# Altium integrated library ON Semi Passive Tunable Integrated Circuits (PTICs).IntLib: 16 symbols
Pins are listed as number, name and electrical type; pins without a type are passive.

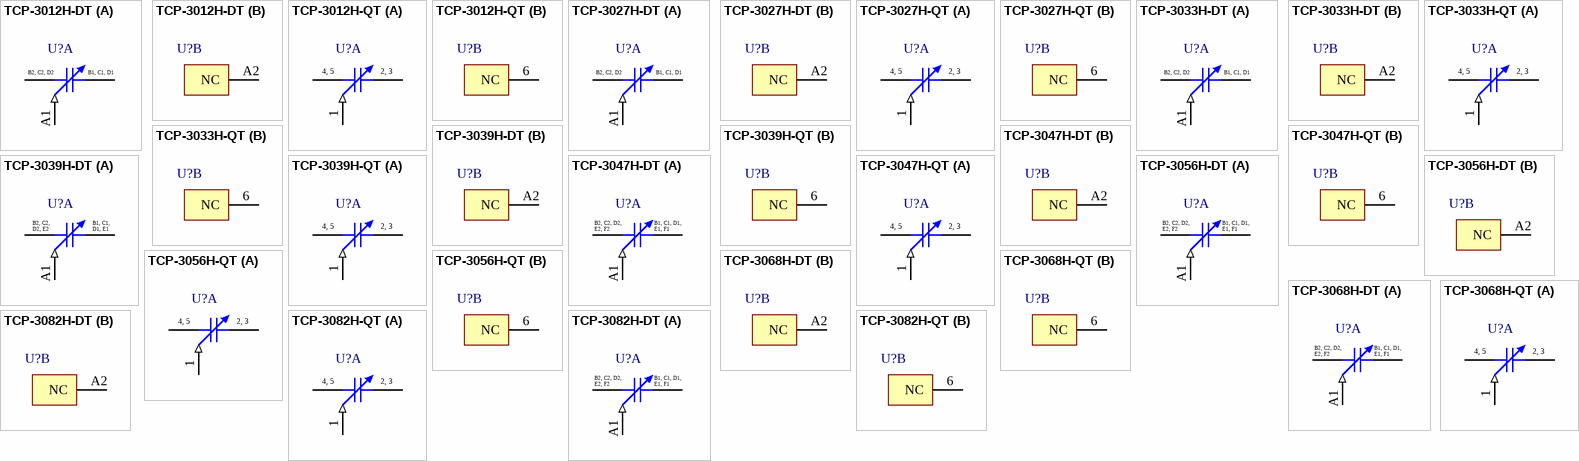
[diagram p0: symbols TCP-3012H-DT to TCP-3082H-QT]

## TCP-3012H-DT
designator U?
1.2 pF Passive Tunable Integrated Circuit (PTIC), -30 to 85 degC, 8-Pin WLCSP, Pb-Free, Tape and Reel; Manufacturer: On Semiconductor; PartNumber: TCP-3012H-DT; fO MHz: 700-2700; Q @ 2.4 GHz, 10 V: 60; Q @ 700 MHz, 10 V: 90; Tuning Range 2 - 20 V Typ: 3.8; DatasheetVersion: Rev. P3; PackageReference: WLCSP-8; PackageDescription: 8-Ball Wafer Level Chip Scale Package, Body 0.879 x 0.722 mm; Supplier 1: Newark; Supplier Part Number 1: 97W6528; Supplier 2: Mouser; Supplier Part Number 2: 863-TCP-3012H-DT; Packing: Tape and Reel; RoHS: Pb-Free; Mounting Technology: Surface Mount; ComponentLink1Description: Manufacturer URL; ComponentLink1URL: http://www.onsemi.com/; ComponentLink2Description: Datasheet; ComponentLink2URL: http://www.onsemi.com/pub_link/Collateral/TCP-3012H-D.PDF; ComponentLink3Description: Package Specification; ComponentLink3URL: http://www.onsemi.com/pub_link/Collateral/TCP-3012H-D.PDF
footprint ONSC-WLCSP-8_V (WLCSP, 8-Leads, Body 0.879x0.722mm)
part A pins: A1 BIAS (in), B1 RF2, B2 RF1, C1 RF2, C2 RF1, D1 RF2, D2 RF1
part B pins: A2 NC
part A text: B2, C2, D2; B1, C1, D1

## TCP-3012H-QT
designator U?
1.2 pF Passive Tunable Integrated Circuit (PTIC), -30 to 85 degC, 6-Pin QFN, Pb-Free, Tape and Reel; Manufacturer: On Semiconductor; PartNumber: TCP-3012H-QT; fO MHz: 700-2700; Q @ 2.4 GHz, 10 V: 60; Q @ 700 MHz, 10 V: 90; Tuning Range 2 - 20 V Typ: 3.8; DatasheetVersion: Rev. P3; PackageReference: QFN-6; PackageDescription: 6-Pin Plastic Flat Pack, Body 1.6 x 1.2 mm, Pitch 0.5 mm; Supplier 1: Newark; Supplier Part Number 1: 97W6529; Supplier 2: Mouser; Supplier Part Number 2: 863-TCP-3012H-QT; Packing: Tape and Reel; RoHS: Pb-Free; Mounting Technology: Surface Mount; ComponentLink1Description: Manufacturer URL; ComponentLink1URL: http://www.onsemi.com/; ComponentLink2Description: Datasheet; ComponentLink2URL: http://www.onsemi.com/pub_link/Collateral/TCP-3012H-D.PDF; ComponentLink3Description: Package Specification; ComponentLink3URL: http://www.onsemi.com/pub_link/Collateral/TCP-3012H-D.PDF
footprint ONSC-QFN-6_V (QFN, 6-Leads, Body 1.6x1.2mm, Pitch 0.5mm, Recommended)
part A pins: 1 BIAS (in), 2 RF2, 3 RF2, 4 RF1, 5 RF1
part B pins: 6 NC
part A text: 4, 5; 2, 3

## TCP-3027H-DT
designator U?
2.7 pF Passive Tunable Integrated Circuit (PTIC), -30 to 85 degC, 8-Pin WLCSP, Pb-Free, Tape and Reel; Manufacturer: On Semiconductor; PartNumber: TCP-3027H-DT; fO MHz: 700-2700; Q @ 2.4 GHz, 10 V: 60; Q @ 700 MHz, 10 V: 90; Tuning Range 2 - 20 V Typ: 3.8; DatasheetVersion: Rev. P3; PackageReference: WLCSP-8; PackageDescription: 8-Ball Wafer Level Chip Scale Package, Body 0.879 x 0.722 mm; Supplier 1: Newark; Supplier Part Number 1: 97W6530; Supplier 2: Mouser; Supplier Part Number 2: 863-TCP-3027H-DT; Packing: Tape and Reel; RoHS: Pb-Free; Mounting Technology: Surface Mount; ComponentLink1Description: Manufacturer URL; ComponentLink1URL: http://www.onsemi.com/; ComponentLink2Description: Datasheet; ComponentLink2URL: http://www.onsemi.com/pub_link/Collateral/TCP-3027H-D.PDF; ComponentLink3Description: Package Specification; ComponentLink3URL: http://www.onsemi.com/pub_link/Collateral/TCP-3012H-D.PDF
footprint ONSC-WLCSP-8_V (WLCSP, 8-Leads, Body 0.879x0.722mm)
part A pins: A1 BIAS (in), B1 RF2, B2 RF1, C1 RF2, C2 RF1, D1 RF2, D2 RF1
part B pins: A2 NC
part A text: B2, C2, D2; B1, C1, D1

## TCP-3027H-QT
designator U?
2.7 pF Passive Tunable Integrated Circuit (PTIC), -30 to 85 degC, 6-Pin QFN, Pb-Free, Tape and Reel; Manufacturer: On Semiconductor; PartNumber: TCP-3027H-QT; fO MHz: 700-2700; Q @ 2.4 GHz, 10 V: 60; Q @ 700 MHz, 10 V: 90; Tuning Range 2 - 20 V Typ: 3.8; DatasheetVersion: Rev. P3; PackageReference: QFN-6; PackageDescription: 6-Pin Plastic Flat Pack, Body 1.6 x 1.2 mm, Pitch 0.5 mm; Supplier 1: Newark; Supplier Part Number 1: 97W6531; Supplier 2: Mouser; Supplier Part Number 2: 863-TCP-3027H-QT; Packing: Tape and Reel; RoHS: Pb-Free; Mounting Technology: Surface Mount; ComponentLink1Description: Manufacturer URL; ComponentLink1URL: http://www.onsemi.com/; ComponentLink2Description: Datasheet; ComponentLink2URL: http://www.onsemi.com/pub_link/Collateral/TCP-3027H-D.PDF; ComponentLink3Description: Package Specification; ComponentLink3URL: http://www.onsemi.com/pub_link/Collateral/TCP-3012H-D.PDF
footprint ONSC-QFN-6_V (QFN, 6-Leads, Body 1.6x1.2mm, Pitch 0.5mm, Recommended)
part A pins: 1 BIAS (in), 2 RF2, 3 RF2, 4 RF1, 5 RF1
part B pins: 6 NC
part A text: 4, 5; 2, 3

## TCP-3033H-DT
designator U?
3.3 pF Passive Tunable Integrated Circuit (PTIC), -30 to 85 degC, 8-Pin WLCSP, Pb-Free, Tape and Reel; Manufacturer: On Semiconductor; PartNumber: TCP-3033H-DT; fO MHz: 700-2700; Q @ 2.4 GHz, 10 V: 60; Q @ 700 MHz, 10 V: 90; Tuning Range 2 - 20 V Typ: 3.8; DatasheetVersion: Rev. P3; PackageReference: WLCSP-8; PackageDescription: 8-Ball Wafer Level Chip Scale Package, Body 0.879 x 0.722 mm; Supplier 1: Newark; Supplier Part Number 1: 97W6534; Supplier 2: Mouser; Supplier Part Number 2: 863-TCP-3033H-DT; Packing: Tape and Reel; RoHS: Pb-Free; Mounting Technology: Surface Mount; ComponentLink1Description: Manufacturer URL; ComponentLink1URL: http://www.onsemi.com/; ComponentLink2Description: Datasheet; ComponentLink2URL: http://www.onsemi.com/pub_link/Collateral/TCP-3033H-D.PDF; ComponentLink3Description: Package Specification; ComponentLink3URL: http://www.onsemi.com/pub_link/Collateral/TCP-3012H-D.PDF
footprint ONSC-WLCSP-8_V (WLCSP, 8-Leads, Body 0.879x0.722mm)
part A pins: A1 BIAS (in), B1 RF2, B2 RF1, C1 RF2, C2 RF1, D1 RF2, D2 RF1
part B pins: A2 NC
part A text: B2, C2, D2; B1, C1, D1

## TCP-3033H-QT
designator U?
3.3 pF Passive Tunable Integrated Circuit (PTIC), -30 to 85 degC, 6-Pin QFN, Pb-Free, Tape and Reel; Manufacturer: On Semiconductor; PartNumber: TCP-3033H-QT; fO MHz: 700-2700; Q @ 2.4 GHz, 10 V: 60; Q @ 700 MHz, 10 V: 90; Tuning Range 2 - 20 V Typ: 3.8; DatasheetVersion: Rev. P3; PackageReference: QFN-6; PackageDescription: 6-Pin Plastic Flat Pack, Body 1.6 x 1.2 mm, Pitch 0.5 mm; Supplier 1: Newark; Supplier Part Number 1: 97W6535; Supplier 2: Mouser; Supplier Part Number 2: 863-TCP-3033H-QT; Packing: Tape and Reel; RoHS: Pb-Free; Mounting Technology: Surface Mount; ComponentLink1Description: Manufacturer URL; ComponentLink1URL: http://www.onsemi.com/; ComponentLink2Description: Datasheet; ComponentLink2URL: http://www.onsemi.com/pub_link/Collateral/TCP-3033H-D.PDF; ComponentLink3Description: Package Specification; ComponentLink3URL: http://www.onsemi.com/pub_link/Collateral/TCP-3012H-D.PDF
footprint ONSC-QFN-6_V (QFN, 6-Leads, Body 1.6x1.2mm, Pitch 0.5mm, Recommended)
part A pins: 1 BIAS (in), 2 RF2, 3 RF2, 4 RF1, 5 RF1
part B pins: 6 NC
part A text: 4, 5; 2, 3

## TCP-3039H-DT
designator U?
3.9 pF Passive Tunable Integrated Circuit (PTIC), -30 to 85 degC, 10-Pin WLCSP, Pb-Free, Tape and Reel; Manufacturer: On Semiconductor; PartNumber: TCP-3039H-DT; fO MHz: 700-2700; Q @ 2.4 GHz, 10 V: 60; Q @ 700 MHz, 10 V: 90; Tuning Range 2 - 20 V Typ: 3.8; DatasheetVersion: Rev. P3; PackageReference: WLCSP-10; PackageDescription: 10-Ball Wafer Level Chip Scale Package, Body 1.029 x 0.722 mm; Supplier 1: Newark; Supplier Part Number 1: 97W6538; Supplier 2: Mouser; Supplier Part Number 2: 863-TCP-3039H-DT; Packing: Tape and Reel; RoHS: Pb-Free; Mounting Technology: Surface Mount; ComponentLink1Description: Manufacturer URL; ComponentLink1URL: http://www.onsemi.com/; ComponentLink2Description: Datasheet; ComponentLink2URL: http://www.onsemi.com/pub_link/Collateral/TCP-3039H-D.PDF; ComponentLink3Description: Package Specification; ComponentLink3URL: http://www.onsemi.com/pub_link/Collateral/TCP-3039H-D.PDF
footprint ONSC-WLCSP-10_V (WLCSP, 10-Leads, Body 1.029x0.722mm)
part A pins: A1 BIAS (in), B1 RF2, B2 RF1, C1 RF2, C2 RF1, D1 RF2, D2 RF1, E1 RF2, E2 RF1
part B pins: A2 NC
part A text: B2, C2,; B1, C1,; D2, E2; D1, E1

## TCP-3039H-QT
designator U?
3.9 pF Passive Tunable Integrated Circuit (PTIC), -30 to 85 degC, 6-Pin QFN, Pb-Free, Tape and Reel; Manufacturer: On Semiconductor; PartNumber: TCP-3039H-QT; fO MHz: 700-2700; Q @ 2.4 GHz, 10 V: 60; Q @ 700 MHz, 10 V: 90; Tuning Range 2 - 20 V Typ: 3.8; DatasheetVersion: Rev. P3; PackageReference: QFN-6; PackageDescription: 6-Pin Plastic Flat Pack, Body 1.6 x 1.2 mm, Pitch 0.5 mm; Supplier 1: Newark; Supplier Part Number 1: 97W6539; Supplier 2: Mouser; Supplier Part Number 2: 863-TCP-3039H-QT; Packing: Tape and Reel; RoHS: Pb-Free; Mounting Technology: Surface Mount; ComponentLink1Description: Manufacturer URL; ComponentLink1URL: http://www.onsemi.com/; ComponentLink2Description: Datasheet; ComponentLink2URL: http://www.onsemi.com/pub_link/Collateral/TCP-3039H-D.PDF; ComponentLink3Description: Package Specification; ComponentLink3URL: http://www.onsemi.com/pub_link/Collateral/TCP-3012H-D.PDF
footprint ONSC-QFN-6_V (QFN, 6-Leads, Body 1.6x1.2mm, Pitch 0.5mm, Recommended)
part A pins: 1 BIAS (in), 2 RF2, 3 RF2, 4 RF1, 5 RF1
part B pins: 6 NC
part A text: 4, 5; 2, 3

## TCP-3047H-DT
designator U?
4.7 pF Passive Tunable Integrated Circuit (PTIC), -30 to 85 degC, 12-Pin WLCSP, Pb-Free, Tape and Reel; Manufacturer: On Semiconductor; PartNumber: TCP-3047H-DT; fO MHz: 700-2700; Q @ 2.4 GHz, 10 V: 60; Q @ 700 MHz, 10 V: 90; Tuning Range 2 - 20 V Typ: 3.8; DatasheetVersion: Rev. P3; PackageReference: WLCSP-12; PackageDescription: 12-Ball Wafer Level Chip Scale Package, Body 1.179 x 0.722 mm; Supplier 1: Newark; Supplier Part Number 1: 97W6542; Supplier 2: Mouser; Supplier Part Number 2: 863-TCP-3047H-DT; Packing: Tape and Reel; RoHS: Pb-Free; Mounting Technology: Surface Mount; ComponentLink1Description: Manufacturer URL; ComponentLink1URL: http://www.onsemi.com/; ComponentLink2Description: Datasheet; ComponentLink2URL: http://www.onsemi.com/pub_link/Collateral/TCP-3047H-D.PDF; ComponentLink3Description: Package Specification; ComponentLink3URL: http://www.onsemi.com/pub_link/Collateral/TCP-3082H-D.PDF
footprint ONSC-WLCSP-12_V (WLCSP, 12-Leads, Body 1.179x0.722mm)
part A pins: A1 BIAS (in), B1 RF2, B2 RF1, C1 RF2, C2 RF1, D1 RF2, D2 RF1, E1 RF2, E2 RF1, F1 RF2, F2 RF1
part B pins: A2 NC
part A text: B2, C2, D2,; B1, C1, D1,; E2, F2; E1, F1

## TCP-3047H-QT
designator U?
4.7 pF Passive Tunable Integrated Circuit (PTIC), -30 to 85 degC, 6-Pin QFN, Pb-Free, Tape and Reel; Manufacturer: On Semiconductor; PartNumber: TCP-3047H-QT; fO MHz: 700-2700; Q @ 2.4 GHz, 10 V: 60; Q @ 700 MHz, 10 V: 90; Tuning Range 2 - 20 V Typ: 3.8; DatasheetVersion: Rev. P3; PackageReference: QFN-6; PackageDescription: 6-Pin Plastic Flat Pack, Body 1.6 x 1.2 mm, Pitch 0.5 mm; Supplier 1: Newark; Supplier Part Number 1: 97W6543; Supplier 2: Mouser; Supplier Part Number 2: 863-TCP-3047H-QT; Packing: Tape and Reel; RoHS: Pb-Free; Mounting Technology: Surface Mount; ComponentLink1Description: Manufacturer URL; ComponentLink1URL: http://www.onsemi.com/; ComponentLink2Description: Datasheet; ComponentLink2URL: http://www.onsemi.com/pub_link/Collateral/TCP-3047H-D.PDF; ComponentLink3Description: Package Specification; ComponentLink3URL: http://www.onsemi.com/pub_link/Collateral/TCP-3012H-D.PDF
footprint ONSC-QFN-6_V (QFN, 6-Leads, Body 1.6x1.2mm, Pitch 0.5mm, Recommended)
part A pins: 1 BIAS (in), 2 RF2, 3 RF2, 4 RF1, 5 RF1
part B pins: 6 NC
part A text: 4, 5; 2, 3

## TCP-3056H-DT
designator U?
5.6 pF Passive Tunable Integrated Circuit (PTIC), -30 to 85 degC, 12-Pin WLCSP, Pb-Free, Tape and Reel; Manufacturer: On Semiconductor; PartNumber: TCP-3056H-DT; fO MHz: 700-2700; Q @ 2.4 GHz, 10 V: 65; Q @ 700 MHz, 10 V: 100; Tuning Range 2 - 20 V Typ: 3.8; DatasheetVersion: Rev. P3; PackageReference: WLCSP-12; PackageDescription: 12-Ball Wafer Level Chip Scale Package, Body 1.179 x 0.722 mm; Supplier 1: Newark; Supplier Part Number 1: 97W6546; Supplier 2: Mouser; Supplier Part Number 2: 863-TCP-3056H-DT; Packing: Tape and Reel; RoHS: Pb-Free; Mounting Technology: Surface Mount; ComponentLink1Description: Manufacturer URL; ComponentLink1URL: http://www.onsemi.com/; ComponentLink2Description: Datasheet; ComponentLink2URL: http://www.onsemi.com/pub_link/Collateral/TCP-3056H-D.PDF; ComponentLink3Description: Package Specification; ComponentLink3URL: http://www.onsemi.com/pub_link/Collateral/TCP-3082H-D.PDF
footprint ONSC-WLCSP-12_V (WLCSP, 12-Leads, Body 1.179x0.722mm)
part A pins: A1 BIAS (in), B1 RF2, B2 RF1, C1 RF2, C2 RF1, D1 RF2, D2 RF1, E1 RF2, E2 RF1, F1 RF2, F2 RF1
part B pins: A2 NC
part A text: B2, C2, D2,; B1, C1, D1,; E2, F2; E1, F1

## TCP-3056H-QT
designator U?
5.6 pF Passive Tunable Integrated Circuit (PTIC), -30 to 85 degC, 6-Pin QFN, Pb-Free, Tape and Reel; Manufacturer: On Semiconductor; PartNumber: TCP-3056H-QT; fO MHz: 700-2700; Q @ 2.4 GHz, 10 V: 65; Q @ 700 MHz, 10 V: 100; Tuning Range 2 - 20 V Typ: 3.8; DatasheetVersion: Rev. P3; PackageReference: QFN-6; PackageDescription: 6-Pin Plastic Flat Pack, Body 1.6 x 1.2 mm, Pitch 0.5 mm; Supplier 1: Newark; Supplier Part Number 1: 97W6547; Supplier 2: Mouser; Supplier Part Number 2: 863-TCP-3056H-QT; Packing: Tape and Reel; RoHS: Pb-Free; Mounting Technology: Surface Mount; ComponentLink1Description: Manufacturer URL; ComponentLink1URL: http://www.onsemi.com/; ComponentLink2Description: Datasheet; ComponentLink2URL: http://www.onsemi.com/pub_link/Collateral/TCP-3056H-D.PDF; ComponentLink3Description: Package Specification; ComponentLink3URL: http://www.onsemi.com/pub_link/Collateral/TCP-3012H-D.PDF
footprint ONSC-QFN-6_V (QFN, 6-Leads, Body 1.6x1.2mm, Pitch 0.5mm, Recommended)
part A pins: 1 BIAS (in), 2 RF2, 3 RF2, 4 RF1, 5 RF1
part B pins: 6 NC
part A text: 4, 5; 2, 3

## TCP-3068H-DT
designator U?
6.8 pF Passive Tunable Integrated Circuit (PTIC), -30 to 85 degC, 12-Pin WLCSP, Pb-Free, Tape and Reel; Manufacturer: On Semiconductor; PartNumber: TCP-3068H-DT; fO MHz: 700-2700; Q @ 2.4 GHz, 10 V: 75; Q @ 700 MHz, 10 V: 100; Tuning Range 2 - 20 V Typ: 3.8; DatasheetVersion: Rev. P2; PackageReference: WLCSP-12; PackageDescription: 12-Ball Wafer Level Chip Scale Package, Body 1.179 x 0.722 mm; Supplier 1: Newark; Supplier Part Number 1: 97W6550; Supplier 2: Mouser; Supplier Part Number 2: 863-TCP-3068H-DT; Packing: Tape and Reel; RoHS: Pb-Free; Mounting Technology: Surface Mount; ComponentLink1Description: Manufacturer URL; ComponentLink1URL: http://www.onsemi.com/; ComponentLink2Description: Datasheet; ComponentLink2URL: http://www.onsemi.com/pub_link/Collateral/TCP-3068H-D.PDF; ComponentLink3Description: Package Specification; ComponentLink3URL: http://www.onsemi.com/pub_link/Collateral/TCP-3082H-D.PDF
footprint ONSC-WLCSP-12_V (WLCSP, 12-Leads, Body 1.179x0.722mm)
part A pins: A1 BIAS (in), B1 RF2, B2 RF1, C1 RF2, C2 RF1, D1 RF2, D2 RF1, E1 RF2, E2 RF1, F1 RF2, F2 RF1
part B pins: A2 NC
part A text: B2, C2, D2,; B1, C1, D1,; E2, F2; E1, F1

## TCP-3068H-QT
designator U?
6.8 pF Passive Tunable Integrated Circuit (PTIC), -30 to 85 degC, 6-Pin QFN, Pb-Free, Tape and Reel; Manufacturer: On Semiconductor; PartNumber: TCP-3068H-QT; fO MHz: 700-2700; Q @ 2.4 GHz, 10 V: 75; Q @ 700 MHz, 10 V: 100; Tuning Range 2 - 20 V Typ: 3.8; DatasheetVersion: Rev. P2; PackageReference: QFN-6; PackageDescription: 6-Pin Plastic Flat Pack, Body 1.6 x 1.2 mm, Pitch 0.5 mm; Supplier 1: Newark; Supplier Part Number 1: 97W6551; Supplier 2: Mouser; Supplier Part Number 2: 863-TCP-3068H-QT; Packing: Tape and Reel; RoHS: Pb-Free; Mounting Technology: Surface Mount; ComponentLink1Description: Manufacturer URL; ComponentLink1URL: http://www.onsemi.com/; ComponentLink2Description: Datasheet; ComponentLink2URL: http://www.onsemi.com/pub_link/Collateral/TCP-3068H-D.PDF; ComponentLink3Description: Package Specification; ComponentLink3URL: http://www.onsemi.com/pub_link/Collateral/TCP-3012H-D.PDF
footprint ONSC-QFN-6_V (QFN, 6-Leads, Body 1.6x1.2mm, Pitch 0.5mm, Recommended)
part A pins: 1 BIAS (in), 2 RF2, 3 RF2, 4 RF1, 5 RF1
part B pins: 6 NC
part A text: 4, 5; 2, 3

## TCP-3082H-DT
designator U?
8.2 pF Passive Tunable Integrated Circuit (PTIC), -30 to 85 degC, 12-Pin WLCSP, Pb-Free, Tape and Reel; Manufacturer: On Semiconductor; PartNumber: TCP-3082H-DT; fO MHz: 700-2700; Q @ 2.4 GHz, 10 V: 70; Q @ 700 MHz, 10 V: 100; Tuning Range 2 - 20 V Typ: 3.8; DatasheetVersion: Rev. P3; PackageReference: WLCSP-12; PackageDescription: 12-Ball Wafer Level Chip Scale Package, Body 1.179 x 0.722 mm; Supplier 1: Newark; Supplier Part Number 1: 97W6554; Supplier 2: Mouser; Supplier Part Number 2: 863-TCP-3082H-DT; Packing: Tape and Reel; RoHS: Pb-Free; Mounting Technology: Surface Mount; ComponentLink1Description: Manufacturer URL; ComponentLink1URL: http://www.onsemi.com/; ComponentLink2Description: Datasheet; ComponentLink2URL: http://www.onsemi.com/pub_link/Collateral/TCP-3082H-D.PDF; ComponentLink3Description: Package Specification; ComponentLink3URL: http://www.onsemi.com/pub_link/Collateral/TCP-3082H-D.PDF
footprint ONSC-WLCSP-12_V (WLCSP, 12-Leads, Body 1.179x0.722mm)
part A pins: A1 BIAS (in), B1 RF2, B2 RF1, C1 RF2, C2 RF1, D1 RF2, D2 RF1, E1 RF2, E2 RF1, F1 RF2, F2 RF1
part B pins: A2 NC
part A text: B2, C2, D2,; B1, C1, D1,; E2, F2; E1, F1

## TCP-3082H-QT
designator U?
8.2 pF Passive Tunable Integrated Circuit (PTIC), -30 to 85 degC, 6-Pin QFN, Pb-Free, Tape and Reel; Manufacturer: On Semiconductor; PartNumber: TCP-3082H-QT; fO MHz: 700-2700; Q @ 2.4 GHz, 10 V: 70; Q @ 700 MHz, 10 V: 100; Tuning Range 2 - 20 V Typ: 3.8; DatasheetVersion: Rev. P3; PackageReference: QFN-6; PackageDescription: 6-Pin Plastic Flat Pack, Body 1.6 x 1.2 mm, Pitch 0.5 mm; Supplier 1: Newark; Supplier Part Number 1: 97W6555; Supplier 2: Mouser; Supplier Part Number 2: 863-TCP-3082H-QT; Packing: Tape and Reel; RoHS: Pb-Free; Mounting Technology: Surface Mount; ComponentLink1Description: Manufacturer URL; ComponentLink1URL: http://www.onsemi.com/; ComponentLink2Description: Datasheet; ComponentLink2URL: http://www.onsemi.com/pub_link/Collateral/TCP-3082H-D.PDF; ComponentLink3Description: Package Specification; ComponentLink3URL: http://www.onsemi.com/pub_link/Collateral/TCP-3012H-D.PDF
footprint ONSC-QFN-6_V (QFN, 6-Leads, Body 1.6x1.2mm, Pitch 0.5mm, Recommended)
part A pins: 1 BIAS (in), 2 RF2, 3 RF2, 4 RF1, 5 RF1
part B pins: 6 NC
part A text: 4, 5; 2, 3